# Altium integrated library WE-XHMI_rev15a.intlib: 5 symbols
Pins are listed as number, name and electrical type; pins without a type are passive.

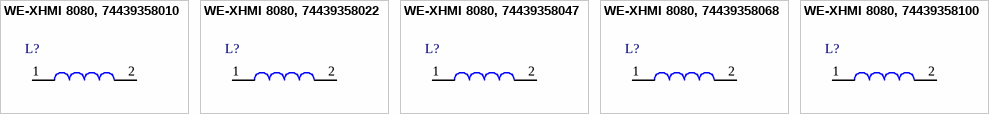
[diagram p0: symbols WE-XHMI 8080, 74439358010 to WE-XHMI 8080, 74439358100]

## WE-XHMI 8080, 74439358010
designator L?
WE-XHMI SMD Power Inductor, Inductance = 1.0 μH; Manufacturer: Wurth Elektronik; ComponentLink1Description: Manufacturer; ComponentLink1URL: http://www.we-online.de; Created by: Baojun Chen; Created Date: Nov.2015; ComponentLink2Description: Datasheet
footprint WE-XHMI_8080
pins: 1, 2

## WE-XHMI 8080, 74439358022
designator L?
WE-XHMI SMD Power Inductor, Inductance = 2.2 μH; Manufacturer: Wurth Elektronik; ComponentLink1Description: Manufacturer; ComponentLink1URL: http://www.we-online.de; Created by: Baojun Chen; Created Date: Nov.2015; ComponentLink2Description: Datasheet
footprint WE-XHMI_8080
pins: 1, 2

## WE-XHMI 8080, 74439358047
designator L?
WE-XHMI SMD Power Inductor, Inductance = 4.7 μH; Manufacturer: Wurth Elektronik; ComponentLink1Description: Manufacturer; ComponentLink1URL: http://www.we-online.de; Created by: Baojun Chen; Created Date: Nov.2015; ComponentLink2Description: Datasheet
footprint WE-XHMI_8080
pins: 1, 2

## WE-XHMI 8080, 74439358068
designator L?
WE-XHMI SMD Power Inductor, Inductance = 6.8 μH; Manufacturer: Wurth Elektronik; ComponentLink1Description: Manufacturer; ComponentLink1URL: http://www.we-online.de; Created by: Baojun Chen; Created Date: Nov.2015; ComponentLink2Description: Datasheet
footprint WE-XHMI_8080
pins: 1, 2

## WE-XHMI 8080, 74439358100
designator L?
WE-XHMI SMD Power Inductor, Inductance = 10.0 μH; Manufacturer: Wurth Elektronik; ComponentLink1Description: Manufacturer; ComponentLink1URL: http://www.we-online.de; Created by: Baojun Chen; Created Date: Nov.2015; ComponentLink2Description: Datasheet
footprint WE-XHMI_8080
pins: 1, 2